# Altium footprint library MY PcbLib1.PcbLib: 14 footprints
Each footprint in its own frame and in the unit in brackets; x right, y up, seen from the top. Pads: shape width x height; smd on the part's side, far side on the other; paste and mask are expansions set on the pad; w line width, h text height; cw(c..) or ccw(c..) is an arc to the next point about the centre after c.
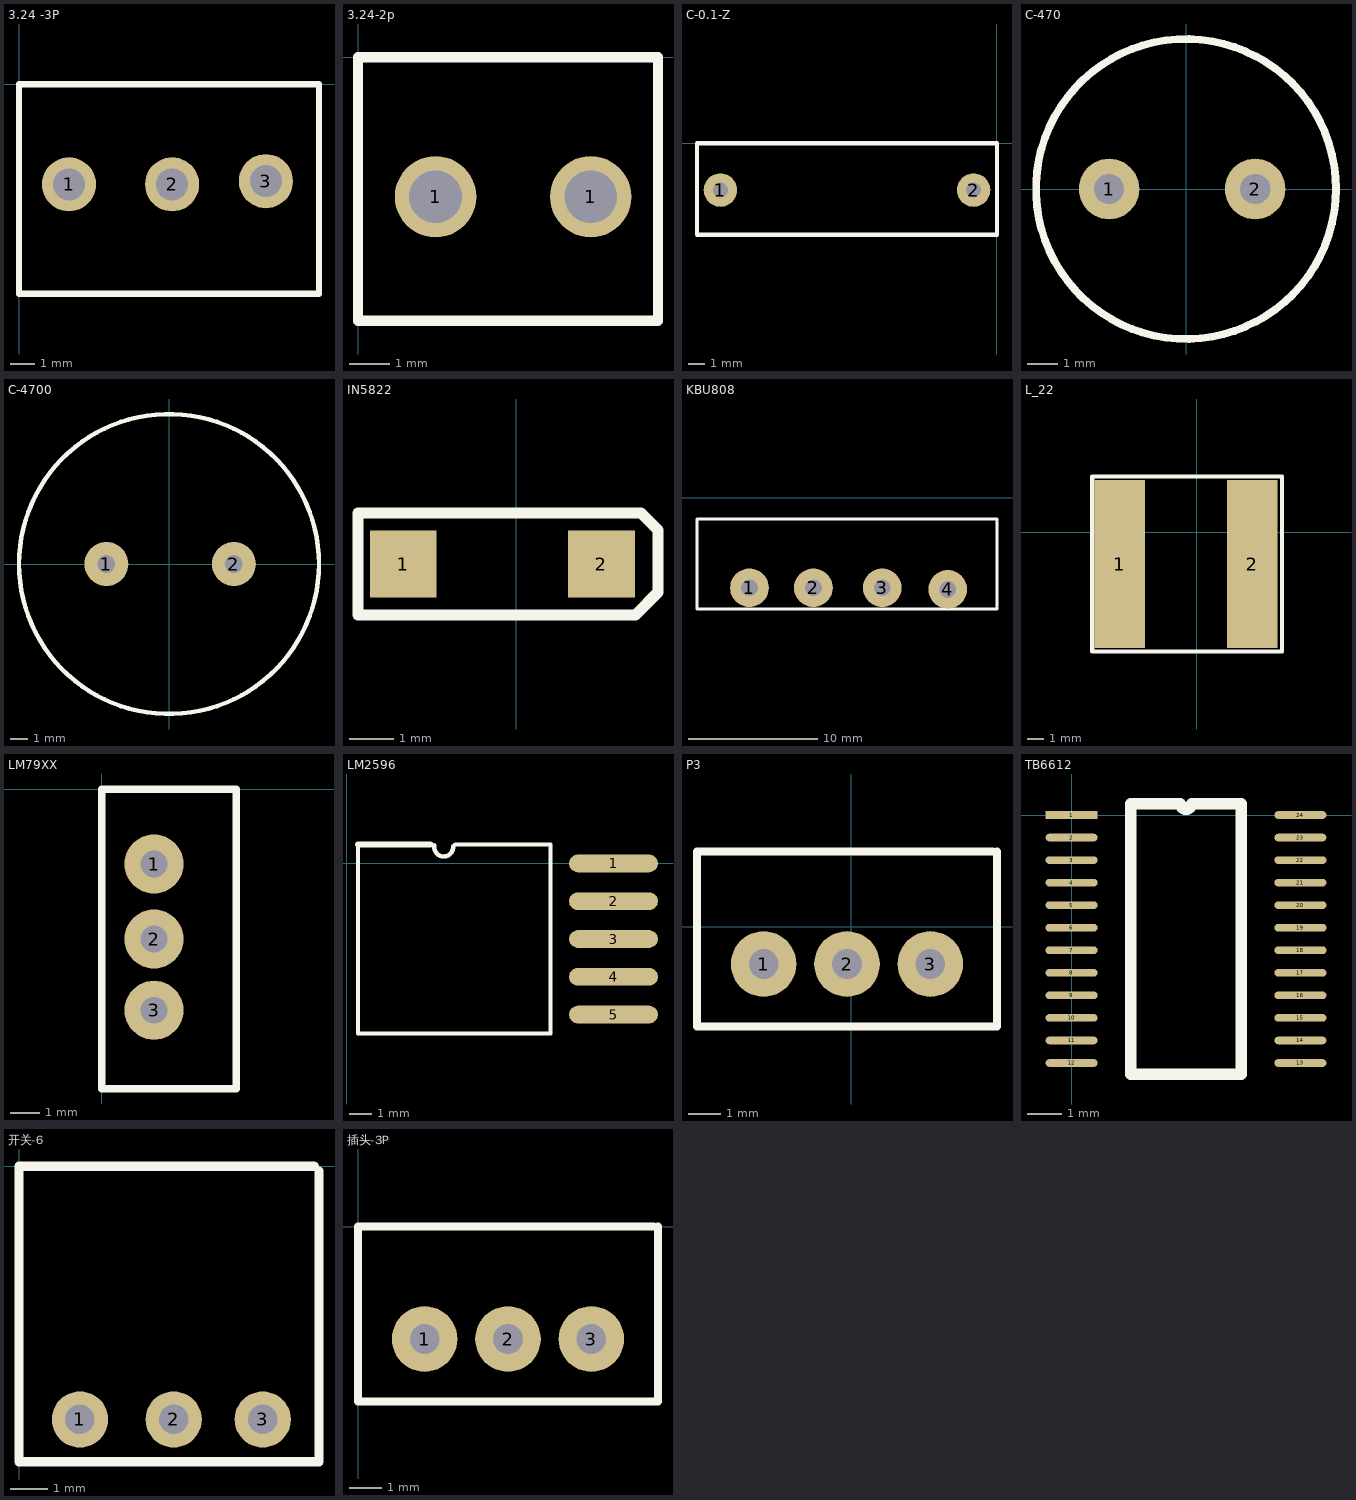
[diagram p0: the footprints below, top view; thin cyan lines are the x and y axes]

## 3.24 -3P [mm]
pads (3):
  round 2.2 hole 1.3: 1(2.032,-4.064) 2(6.223,-4.064) 3(10.033,-3.937)
Top Overlay:
  lines w0.254: 0,-8.509 0,0 12.192,0 12.192,-7.874 12.192,-8.509 0,-8.509

## 3.24-2p [mm]
pads (2):
  round 2 hole 1.3: 1(1.905,-3.429) 1(5.715,-3.429)
Top Overlay:
  lines w0.254: 0,-6.477 7.366,-6.477 7.366,0 0,0 0,-6.477

## C-0.1-Z [mm]
pads (2):
  round 2 hole 0.9: 1(-16.51,-2.794) 2(-1.397,-2.794)
Top Overlay:
  lines w0.254: -17.907,-5.461 -17.907,0 0,0 0,-5.461 -17.907,-5.461

## C-470 [mm]
pads (2):
  round 2 hole 1: 1(-2.54,0) 2(2.286,0)
Top Overlay:
  circle w0.254: c0,0 r4.955

## C-4700 [mm]
pads (2):
  round 2.5 hole 1: 1(-3.556,0) 2(3.683,0)
Top Overlay:
  circle w0.254: c0,0 r8.518

## IN5822 [mm]
pads (2):
  rect 1.5x1.5 all layers, no hole: 1(-2.54,7.874) 2(1.905,7.874)
Top Overlay:
  lines w0.254: -3.556,6.731 -3.556,9.017 2.794,9.017 3.175,8.636 3.175,7.239 2.667,6.731 -3.556,6.731

## KBU808 [mm]
pads (4):
  round 3 hole 1.3: 1(16.383,-6.985) 2(21.336,-6.985) 3(26.67,-6.985) 4(31.75,-7.112)
Top Overlay:
  lines w0.254: 12.319,-8.636 35.56,-8.636 35.56,-1.651 12.319,-1.651 12.319,-8.636

## L_22 [mm]
pads (2):
  rect 3x10 all layers, no hole: 1(-4.572,-1.905) 2(3.302,-1.905)
Top Overlay:
  lines w0.254: -6.223,-7.112 5.08,-7.112 5.08,3.302 -6.223,3.302 -6.223,-7.112

## LM79XX [mm]
pads (3):
  round 2 hole 0.9: 1(1.778,-2.54) 2(1.778,-5.08) 3(1.778,-7.493)
Top Overlay:
  lines w0.254: 0,-10.16 0,0 4.572,0 4.572,-10.16 0,-10.16

## LM2596 [mm]
pads (5):
  oval 4x0.8 smd: 1(12,0) 2(12,-1.7) 3(12,-3.4) 4(12,-5.1) 5(12,-6.8)
Top Overlay:
  lines w0.2: 0.508,0.85 0.508,-7.65 9.165,-7.65 9.165,0.85 6.425,0.85 4.875,0.85 ; 3.944,0.817 ccw(c4.362,0.736) 4.787,0.762
  lines w0.254: 0.508,0.85 3.771,0.85

## P3 [mm]
pads (3):
  round 2 hole 0.9: 1(-2.667,-1.143) 2(-0.127,-1.143) 3(2.413,-1.143)
Top Overlay:
  lines w0.254: 4.318,2.286 -4.699,2.286 -4.699,-3.048 4.445,-3.048 4.445,2.286

## TB6612 [mm]
pads (24):
  rect 1.5x0.22 smd: 1(0,0)
  oval 1.5x0.22 smd: 2(0,-0.65) 3(0,-1.3) 4(0,-1.95) 5(0,-2.6) 6(0,-3.25) 7(0,-3.9) 8(0,-4.55) 9(0,-5.2) 10(0,-5.85) 11(0,-6.5) 12(0,-7.15) 13(6.6,-7.15) 14(6.6,-6.5) 15(6.6,-5.85) 16(6.6,-5.2) 17(6.6,-4.55) 18(6.6,-3.9) 19(6.6,-3.25) 20(6.6,-2.6) 21(6.6,-1.95) 22(6.6,-1.3) 23(6.6,-0.65) 24(6.6,0)
Top Overlay:
  lines w0.325: 1.71,-7.475 4.89,-7.475 4.89,0.325 3.462,0.325 cw(c3.3,0.325) 3.137,0.325 1.71,0.325 1.71,-7.475

## 开关-6 [mil]
pads (3):
  round 60 hole 31.5: 1(65,-270) 2(165,-270) 3(260,-270)
Top Overlay:
  lines w10: 5,0 315,0 0,0 0,-315 320,-315 320,-5

## 插头-3P [mm]
pads (3):
  round 2 hole 0.9: 1(2.032,-3.429) 2(4.572,-3.429) 3(7.112,-3.429)
Top Overlay:
  lines w0.254: 9.017,0 0,0 0,-5.334 9.144,-5.334 9.144,0